# EAGLE library part IMS-T225 (library Transputers)
T225 transputer INMOS 16-bit transputer with four communication links. Source: The Transputer Databook 1992 INMOS/SGS-Thomson Arto Kyyhkynen, artoky@dlc.fi
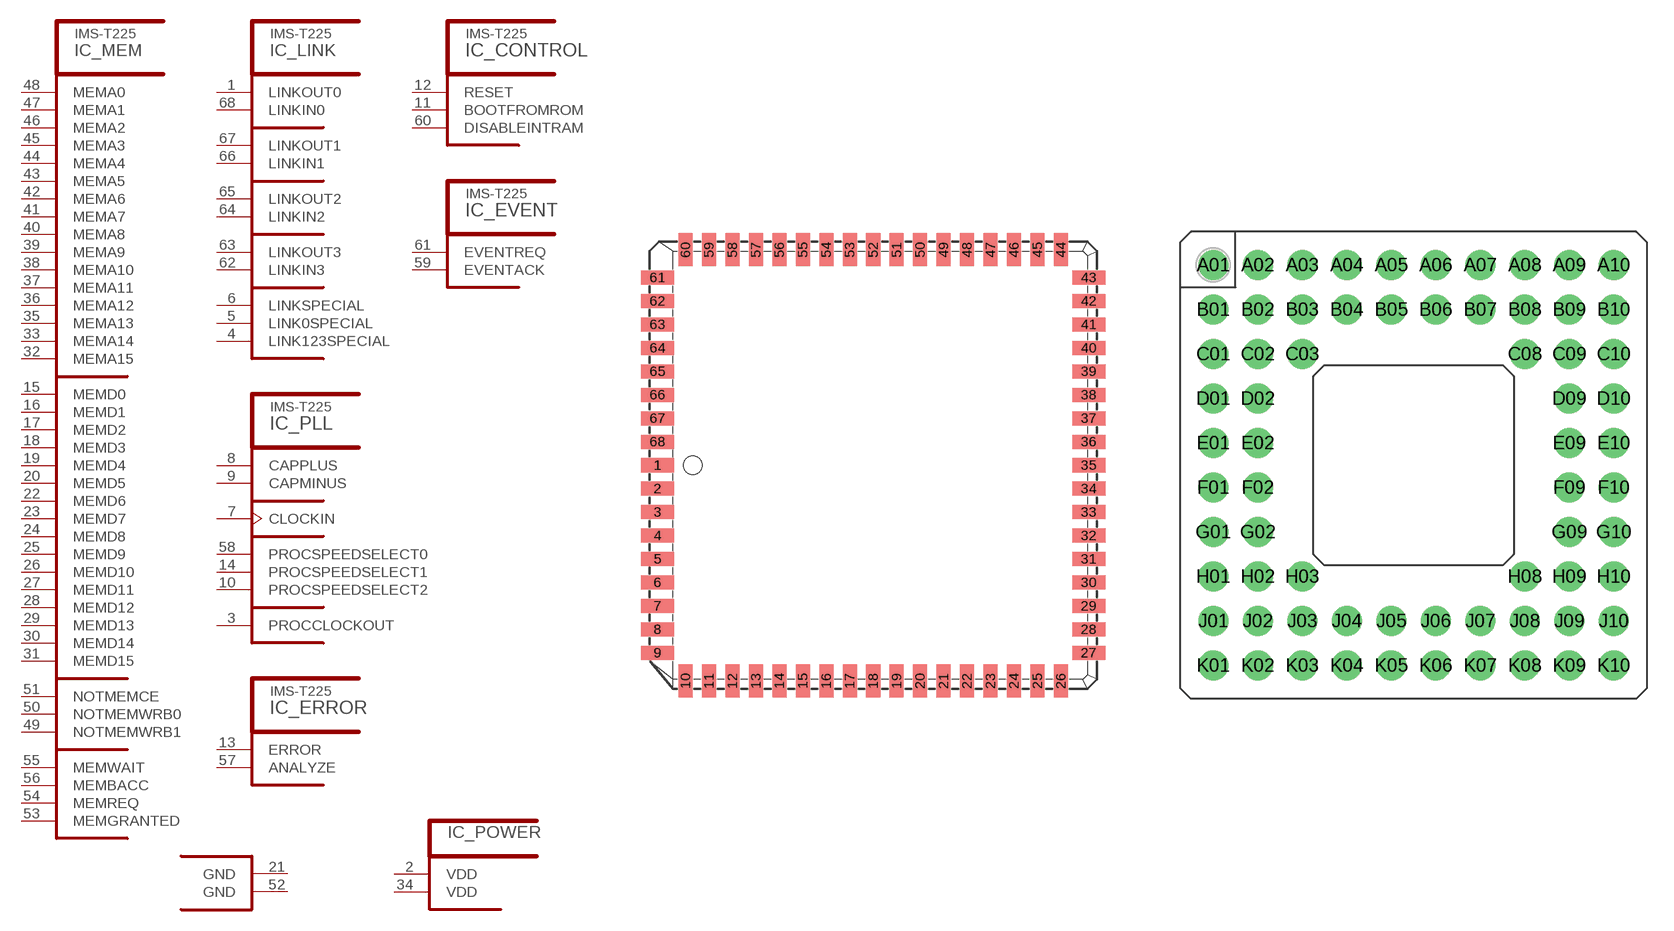
[diagram p6: symbol with the pads of PLCC68; footprints PLCC68, MPGA68]

Designator prefix IC; gates _CONTROL=T2CONTROL _ERROR=T2ERROR _EVENT=T2EVENT _LINK=T2LINK _PLL=T2PLL _POWER=T2SUP2 _MEM=T2MEM

## IMS-T225S20J, IMS-T225S25J  [PLCC68]
1  _LINK:LINKOUT0  out
2  _POWER:VDD  pwr
3  _PLL:PROCCLOCKOUT  out
4  _LINK:LINK123SPECIAL  in
5  _LINK:LINK0SPECIAL  in
6  _LINK:LINKSPECIAL  in
7  _PLL:CLOCKIN  in
8  _PLL:CAPPLUS  pas
9  _PLL:CAPMINUS  pas
10  _PLL:PROCSPEEDSELECT2  in
11  _CONTROL:BOOTFROMROM  in
12  _CONTROL:RESET  in
13  _ERROR:ERROR  out
14  _PLL:PROCSPEEDSELECT1  in
15  _MEM:MEMD0
16  _MEM:MEMD1
17  _MEM:MEMD2
18  _MEM:MEMD3
19  _MEM:MEMD4
20  _MEM:MEMD5
21  _POWER:GND  pwr
22  _MEM:MEMD6
23  _MEM:MEMD7
24  _MEM:MEMD8
25  _MEM:MEMD9
26  _MEM:MEMD10
27  _MEM:MEMD11
28  _MEM:MEMD12
29  _MEM:MEMD13
30  _MEM:MEMD14
31  _MEM:MEMD15
32  _MEM:MEMA15  out
33  _MEM:MEMA14  out
34  _POWER:VDD  pwr
35  _MEM:MEMA13  out
36  _MEM:MEMA12  out
37  _MEM:MEMA11  out
38  _MEM:MEMA10  out
39  _MEM:MEMA9  out
40  _MEM:MEMA8  out
41  _MEM:MEMA7  out
42  _MEM:MEMA6  out
43  _MEM:MEMA5  out
44  _MEM:MEMA4  out
45  _MEM:MEMA3  out
46  _MEM:MEMA2  out
47  _MEM:MEMA1  out
48  _MEM:MEMA0  out
49  _MEM:NOTMEMWRB1  out
50  _MEM:NOTMEMWRB0  out
51  _MEM:NOTMEMCE  out
52  _POWER:GND  pwr
53  _MEM:MEMGRANTED  out
54  _MEM:MEMREQ  in
55  _MEM:MEMWAIT  in
56  _MEM:MEMBACC  in
57  _ERROR:ANALYZE  in
58  _PLL:PROCSPEEDSELECT0  in
59  _EVENT:EVENTACK  out
60  _CONTROL:DISABLEINTRAM  in
61  _EVENT:EVENTREQ  in
62  _LINK:LINKIN3  in
63  _LINK:LINKOUT3  out
64  _LINK:LINKIN2  in
65  _LINK:LINKOUT2  out
66  _LINK:LINKIN1  in
67  _LINK:LINKOUT1  out
68  _LINK:LINKIN0  in

## IMS-T225S20G, IMS-T225S25G, IMS-T225S30G  [MPGA68]
A01  _PLL:CAPPLUS  pas
A02  _LINK:LINK0SPECIAL  in
A03  _PLL:PROCCLOCKOUT  out
A04  _POWER:VDD  pwr
A05  _LINK:LINKIN0  in
A06  _LINK:LINKOUT1  out
A07  _LINK:LINKOUT2  out
A08  _LINK:LINKIN2  in
A09  _LINK:LINKIN3  in
A10  _CONTROL:DISABLEINTRAM  in
B01  _PLL:PROCSPEEDSELECT2  in
B02  _PLL:CLOCKIN  in
B03  _LINK:LINKSPECIAL  in
B04  _LINK:LINK123SPECIAL  in
B05  _LINK:LINKOUT0  out
B06  _LINK:LINKIN1  in
B07  _LINK:LINKOUT3  out
B08  _EVENT:EVENTREQ  in
B09  _PLL:PROCSPEEDSELECT0  in
B10  _ERROR:ANALYZE  in
C01  _CONTROL:RESET  in
C02  _CONTROL:BOOTFROMROM  in
C03  _PLL:CAPMINUS  pas
C08  _EVENT:EVENTACK  out
C09  _MEM:MEMWAIT  in
C10  _MEM:MEMREQ  in
D01  _ERROR:ERROR  out
D02  _PLL:PROCSPEEDSELECT1  in
D09  _MEM:MEMBACC  in
D10  _MEM:MEMGRANTED  out
E01  _MEM:MEMD0
E02  _MEM:MEMD1
E09  _POWER:GND  pwr
E10  _MEM:NOTMEMCE  out
F01  _MEM:MEMD2
F02  _MEM:MEMD3
F09  _MEM:NOTMEMWRB1  out
F10  _MEM:NOTMEMWRB0  out
G01  _MEM:MEMD4
G02  _POWER:GND  pwr
G09  _MEM:MEMA2  out
G10  _MEM:MEMA0  out
H01  _MEM:MEMD5
H02  _MEM:MEMD7
H03  _MEM:MEMD9
H08  _MEM:MEMA5  out
H09  _MEM:MEMA6  out
H10  _MEM:MEMA1  out
J01  _MEM:MEMD6
J02  _MEM:MEMD10
J03  _MEM:MEMD12
J04  _MEM:MEMD14
J05  _MEM:MEMA15  out
J06  _MEM:MEMA13  out
J07  _MEM:MEMA10  out
J08  _MEM:MEMA8  out
J09  _MEM:MEMA7  out
J10  _MEM:MEMA3  out
K01  _MEM:MEMD8
K02  _MEM:MEMD11
K03  _MEM:MEMD13
K04  _MEM:MEMD15
K05  _MEM:MEMA14  out
K06  _POWER:VDD  pwr
K07  _MEM:MEMA12  out
K08  _MEM:MEMA11  out
K09  _MEM:MEMA9  out
K10  _MEM:MEMA4  out

## Footprint PLCC68 (pad centres in mm)
Plastic Leaded Chip Carrier J-bend INMOS
smd 1.8 x 0.76: 1 -11.67,0; 2 -11.67,-1.27; 3 -11.67,-2.54; 4 -11.67,-3.81; 5 -11.67,-5.08; 6 -11.67,-6.35; 7 -11.67,-7.62; 8 -11.67,-8.89; 9 -11.67,-10.16; 27 11.67,-10.16; 28 11.67,-8.89; 29 11.67,-7.62; 30 11.67,-6.35; 31 11.67,-5.08; 32 11.67,-3.81; 33 11.67,-2.54; 34 11.67,-1.27; 35 11.67,0; 36 11.67,1.27; 37 11.67,2.54; 38 11.67,3.81; 39 11.67,5.08; 40 11.67,6.35; 41 11.67,7.62; 42 11.67,8.89; 43 11.67,10.16; 61 -11.67,10.16; 62 -11.67,8.89; 63 -11.67,7.62; 64 -11.67,6.35; 65 -11.67,5.08; 66 -11.67,3.81; 67 -11.67,2.54; 68 -11.67,1.27
smd 0.76 x 1.8: 10 -10.16,-11.67; 11 -8.89,-11.67; 12 -7.62,-11.67; 13 -6.35,-11.67; 14 -5.08,-11.67; 15 -3.81,-11.67; 16 -2.54,-11.67; 17 -1.27,-11.67; 18 0,-11.67; 19 1.27,-11.67; 20 2.54,-11.67; 21 3.81,-11.67; 22 5.08,-11.67; 23 6.35,-11.67; 24 7.62,-11.67; 25 8.89,-11.67; 26 10.16,-11.67; 44 10.16,11.67; 45 8.89,11.67; 46 7.62,11.67; 47 6.35,11.67; 48 5.08,11.67; 49 3.81,11.67; 50 2.54,11.67; 51 1.27,11.67; 52 0,11.67; 53 -1.27,11.67; 54 -2.54,11.67; 55 -3.81,11.67; 56 -5.08,11.67; 57 -6.35,11.67; 58 -7.62,11.67; 59 -8.89,11.67; 60 -10.16,11.67

## Footprint MPGA68 (pad centres in mm)
Ceramic Pin Grid Array
drill 1.143 pad 1.676 round: A01 -11.43,11.43; A02 -8.89,11.43; A03 -6.35,11.43; A04 -3.81,11.43; A05 -1.27,11.43; A06 1.27,11.43; A07 3.81,11.43; A08 6.35,11.43; A09 8.89,11.43; A10 11.43,11.43; B01 -11.43,8.89; B02 -8.89,8.89; B03 -6.35,8.89; B04 -3.81,8.89; B05 -1.27,8.89; B06 1.27,8.89; B07 3.81,8.89; B08 6.35,8.89; B09 8.89,8.89; B10 11.43,8.89; C01 -11.43,6.35; C02 -8.89,6.35; C03 -6.35,6.35; C08 6.35,6.35; C09 8.89,6.35; C10 11.43,6.35; D01 -11.43,3.81; D02 -8.89,3.81; D09 8.89,3.81; D10 11.43,3.81; E01 -11.43,1.27; E02 -8.89,1.27; E09 8.89,1.27; E10 11.43,1.27; F01 -11.43,-1.27; F02 -8.89,-1.27; F09 8.89,-1.27; F10 11.43,-1.27; G01 -11.43,-3.81; G02 -8.89,-3.81; G09 8.89,-3.81; G10 11.43,-3.81; H01 -11.43,-6.35; H02 -8.89,-6.35; H03 -6.35,-6.35; H08 6.35,-6.35; H09 8.89,-6.35; H10 11.43,-6.35; J01 -11.43,-8.89; J02 -8.89,-8.89; J03 -6.35,-8.89; J04 -3.81,-8.89; J05 -1.27,-8.89; J06 1.27,-8.89; J07 3.81,-8.89; J08 6.35,-8.89; J09 8.89,-8.89; J10 11.43,-8.89; K01 -11.43,-11.43; K02 -8.89,-11.43; K03 -6.35,-11.43; K04 -3.81,-11.43; K05 -1.27,-11.43; K06 1.27,-11.43; K07 3.81,-11.43; K08 6.35,-11.43; K09 8.89,-11.43; K10 11.43,-11.43